# Altium footprint library Decawave.PcbLib: 1 footprints
Each footprint in its own frame and in the unit in brackets; x right, y up, seen from the top. Pads: shape width x height; smd on the part's side, far side on the other; paste and mask are expansions set on the pad; w line width, h text height; cw(c..) or ccw(c..) is an arc to the next point about the centre after c.
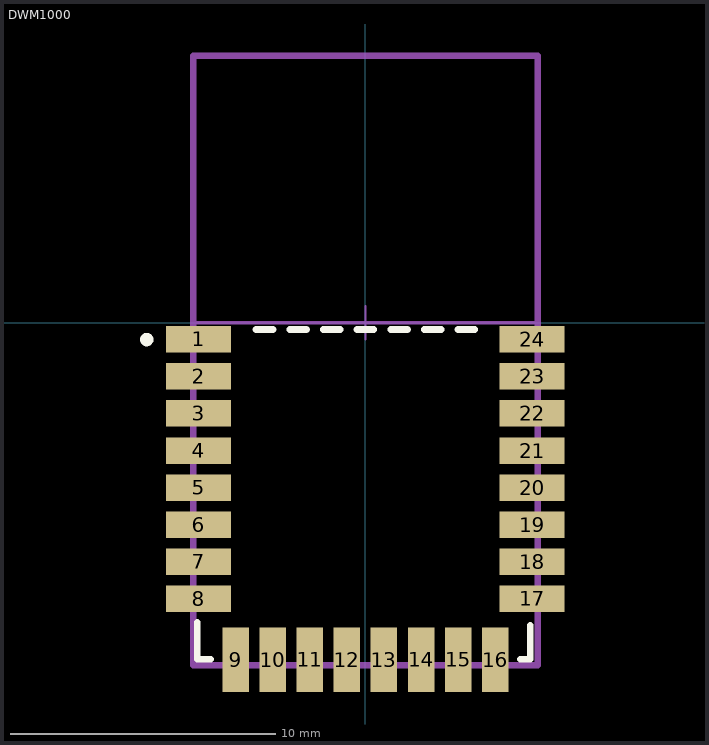
[diagram p0: the footprint, top view; thin cyan lines are the x and y axes]

## DWM1000 [mm] "UWB transceiver"
height 3
pads (24):
  rect 2.45x1 smd: 1(-6.295,-0.625) 2(-6.295,-2.025) 3(-6.295,-3.425) 4(-6.295,-4.825) 5(-6.295,-6.225) 6(-6.295,-7.625) 7(-6.295,-9.025) 8(-6.295,-10.425) 17(6.295,-10.425) 18(6.295,-9.025) 19(6.295,-7.625) 20(6.295,-6.225) 21(6.295,-4.825) 22(6.295,-3.425) 23(6.295,-2.025) 24(6.295,-0.625)
  rect 1x2.45 smd: 9(-4.9,-12.72) 10(-3.5,-12.72) 11(-2.1,-12.72) 12(-0.7,-12.72) 13(0.7,-12.72) 14(2.1,-12.72) 15(3.5,-12.72) 16(4.9,-12.72)
Top Overlay:
  circle w0.254: c-8.255,-0.635 r0.127
  lines w0.254: -6.35,-11.303 -6.35,-12.7 -5.842,-12.7 ; -4.127,-0.254 -3.492,-0.254 ; -2.857,-0.254 -2.222,-0.254 ; -1.587,-0.254 -0.953,-0.254 ; -0.318,-0.254 0.318,-0.254 ; 0.953,-0.254 1.587,-0.254 ; 2.222,-0.254 2.857,-0.254 ; 3.492,-0.254 4.127,-0.254 ; 5.842,-12.7 6.223,-12.7 6.223,-11.43
Mechanical 15:
  lines w0.064: 0,-0.635 0,0.635
  lines w0.127: -6.5,0 6.5,0
  lines w0.254: -6.5,-12.925 -6.5,10.075 6.5,10.075 6.5,-0.625 6.5,-12.925 -6.5,-12.925